# Altium footprint library drossel.PcbLib: 18 footprints (part 1 of 2)
Each footprint in its own frame and in the unit in brackets; x right, y up, seen from the top. Pads: shape width x height; smd on the part's side, far side on the other; paste and mask are expansions set on the pad; w line width, h text height; cw(c..) or ccw(c..) is an arc to the next point about the centre after c.
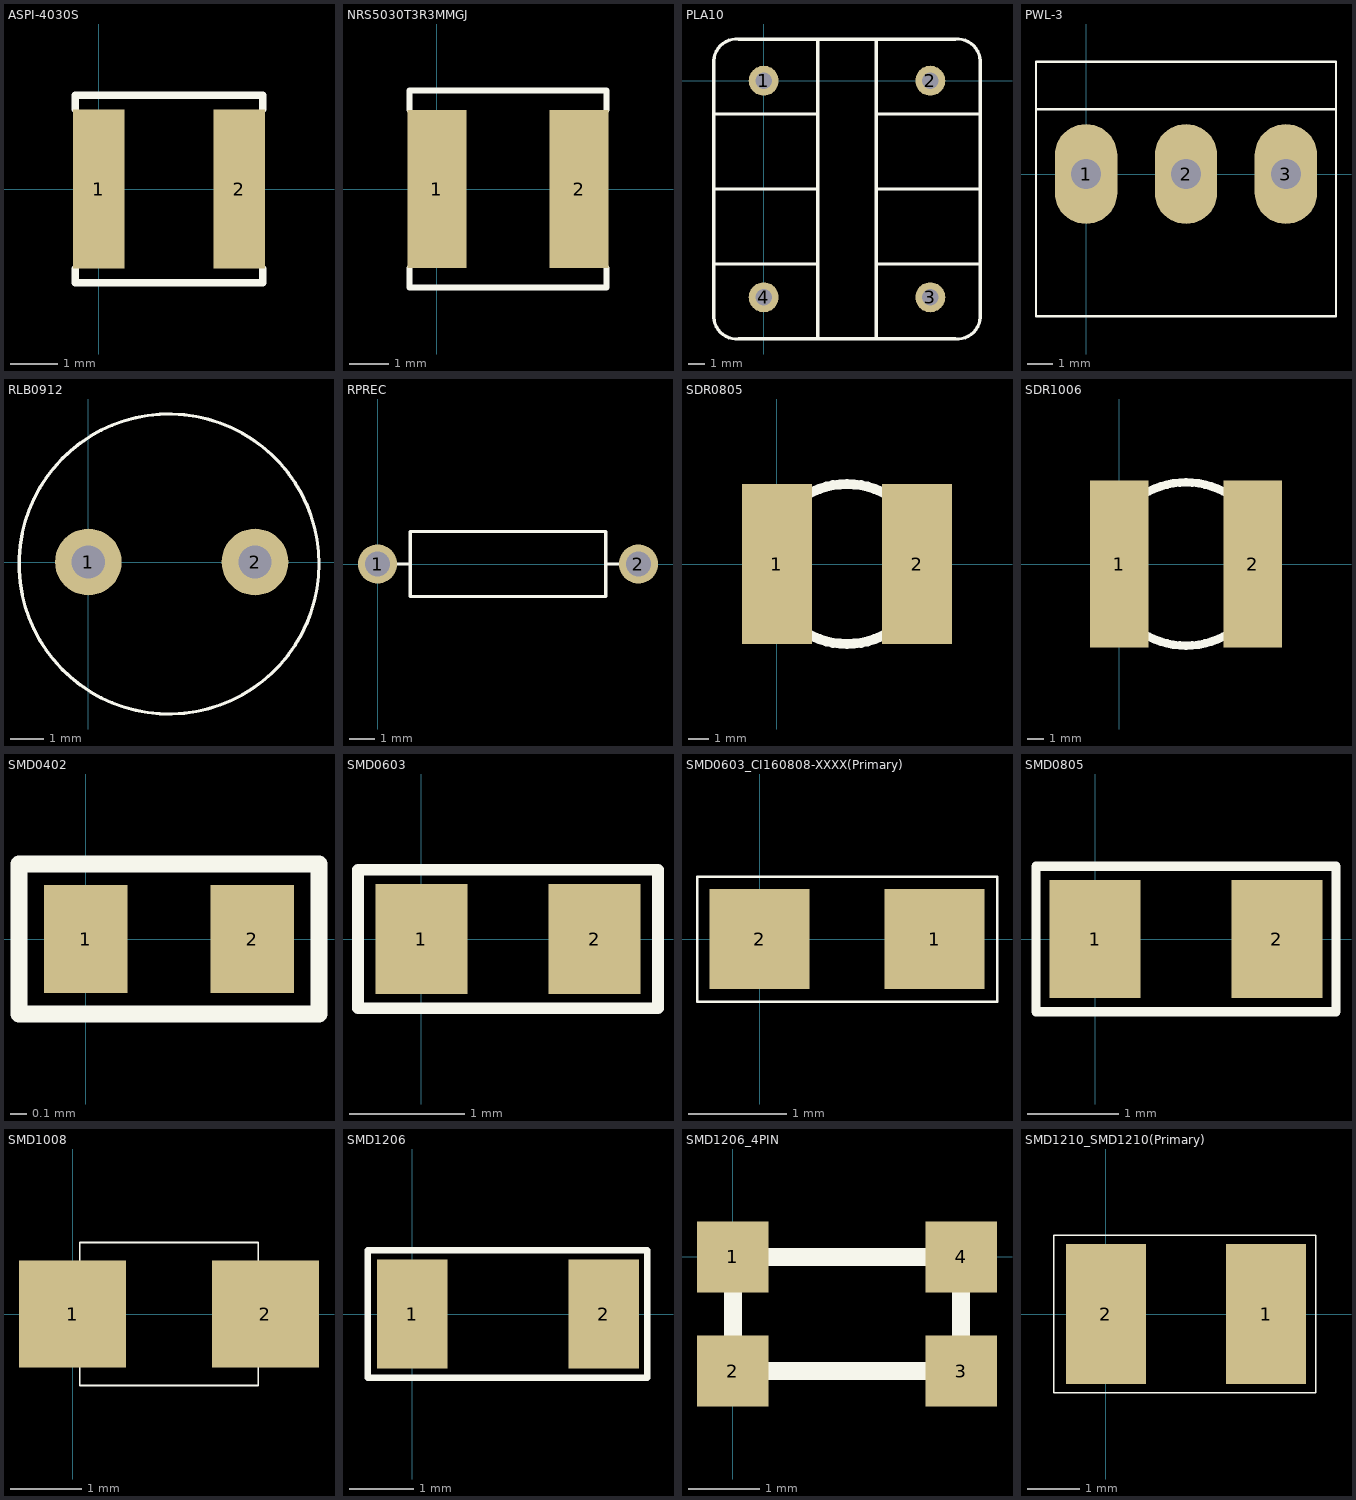
[diagram p0: the footprints below, top view; thin cyan lines are the x and y axes]

## ASPI-4030S [mm]
pads (2):
  rect 1.1x3.4 smd: 1(0,0) 2(3,0)
Top Overlay:
  lines w0.15: -0.5,-1.7 -0.5,-2 3.5,-2 3.5,-1.7 ; -0.5,1.7 -0.5,2 3.5,2 3.5,1.7

## NRS5030T3R3MMGJ [mm]
pads (2):
  rect 1.5x4 smd: 1(0,0) 2(3.6,0)
Top Overlay:
  lines w0.15: -0.7,-2 -0.7,-2.5 4.3,-2.5 4.3,-2 ; -0.7,2 -0.7,2.5 4.3,2.5 4.3,2
3D body "ASPI-4030S.STEP": height 3, standoff 0, extent -0.3,-2 3.7,2

## PLA10 [mm]
pads (4):
  round 1.8 hole 0.965: 1(0,0) 2(10,0) 3(10,-13) 4(0,-13)
Top Overlay:
  lines w0.2: -3,-11 3.25,-11 ; -3,-6.5 3.25,-6.5 ; -3,-2 3.25,-2 ; 3.25,-15.5 3.25,2.5 ; 6.75,-15.5 6.75,2.5 ; 6.75,-11 13,-11 ; 6.75,-6.5 13,-6.5 ; 6.75,-2 13,-2 ; -3,-14 ccw(c-1.625,-14.125) -1.5,-15.5 11.5,-15.5 ccw(c11.625,-14.125) 13,-14 13,1 ccw(c11.625,1.125) 11.5,2.5 -1.5,2.5 ccw(c-1.625,1.125) -3,1 -3,-14

## PWL-3 [mm]
pads (3):
  oval 2.5x4 hole 1.2: 1(0,0) 2(4,0) 3(8,0)
Top Overlay:
  lines w0.1: -2,2.6 10,2.6 ; -2,-5.7 10,-5.7 10,4.5 -2,4.5 -2,-5.7

## RLB0912 [mm]
pads (2):
  round 2 hole 1: 1(0,0) 2(5,0)
Top Overlay:
  circle w0.1: c2.42,-0.06 r4.5
3D body "User Library-RLB 0912.step": height 10, standoff -5, extent -1.861,-4.35 6.839,4.35

## RPREC [mil]
pads (2):
  round 60 hole 38: 1(0,0) 2(400,0)
Top Overlay:
  lines w5: 0,0 50,0 ; 350,0 400,0 ; 50,0 50,50 350,50 350,-50 50,-50 50,0

## SDR0805 [mm]
pads (2):
  rect 3.5x8 smd: 1(0,0) 2(7,0)
Top Overlay:
  circle w0.5: c3.5,0 r4
3D body "User Library-SDR0805.step": height 5.05, standoff 0, extent -0.172,-3.775 7.182,3.725

## SDR1006 [mm]
pads (2):
  rect 3.5x10 smd: 1(0,0) 2(8,0)
Top Overlay:
  circle w0.5: c4,0 r4.9

## SMD0402 [mm]
pads (2):
  rect 0.5x0.65 smd: 1(0,0) 2(1,0)
Top Overlay:
  lines w0.1: -0.4,-0.45 -0.4,0.45 1.4,0.45 1.4,-0.45 -0.4,-0.45
3D body "User Library-0402C.SLDPRT": height 0.36, standoff 0, extent 0,-0.265 1,0.265

## SMD0603 [mm]
pads (2):
  rect 0.8x0.95 smd: 1(0,0) 2(1.5,0)
Top Overlay:
  lines w0.1: -0.55,-0.6 -0.55,0.6 2.05,0.6 2.05,-0.6 -0.55,-0.6
3D body "User Library-0603 SMD Capacitor.SLDPRT": height 0.3, standoff 0, extent -0.05,-0.4 1.55,0.4

## SMD0603_CI160808-XXXX(Primary) [mil]
pads (2):
  rect 40x40 smd: 1(70,0) 2(0,0)
Top Overlay:
  lines w1: -25,-25 -25,20 -25,25 95,25 95,-25 -25,-25

## SMD0805 [mm]
pads (2):
  rect 1x1.3 smd: 1(0,0) 2(2,0)
Top Overlay:
  lines w0.1: -0.65,-0.8 -0.65,0.498 -0.65,0.8 2.65,0.8 2.65,-0.8 -0.65,-0.8
3D body "User Library-cap_0805-1.SLDPRT": height 1.2, standoff 0, extent 0.025,-0.6 2.025,0.6

## SMD1008 [mm]
pads (2):
  rect 1.5x1.5 smd: 1(0,0) 2(2.7,0)
Top Overlay:
  lines w0.025: 0.1,-1 2.6,-1 2.6,1 0.1,1 0.1,-1

## SMD1206 [mm]
pads (2):
  rect 1.1x1.7 smd: 1(0,0) 2(3,0)
Top Overlay:
  lines w0.1: -0.7,-1 -0.7,1 3.683,1 3.683,-1 -0.7,-1

## SMD1206_4PIN [mm]
pads (4):
  rect 1x1 smd: 1(0,0) 2(0,-1.6) 3(3.21,-1.6) 4(3.21,0)
Top Overlay:
  lines w0.254: 0.005,-1.6 3.205,-1.6 3.205,0 0.005,0 0.005,-1.6

## SMD1210_SMD1210(Primary) [mil]
pads (2):
  rect 60x105 smd: 1(120.08,0) 2(0,0)
Top Overlay:
  lines w1: -39.37,-59.06 -39.37,59.06 157.48,59.06 157.48,-59.06 -39.37,-59.06